# Altium footprint library Fuse_Bourns.PcbLib: 1 footprints
Each footprint in its own frame and in the unit in brackets; x right, y up, seen from the top. Pads: shape width x height; smd on the part's side, far side on the other; paste and mask are expansions set on the pad; w line width, h text height; cw(c..) or ccw(c..) is an arc to the next point about the centre after c.
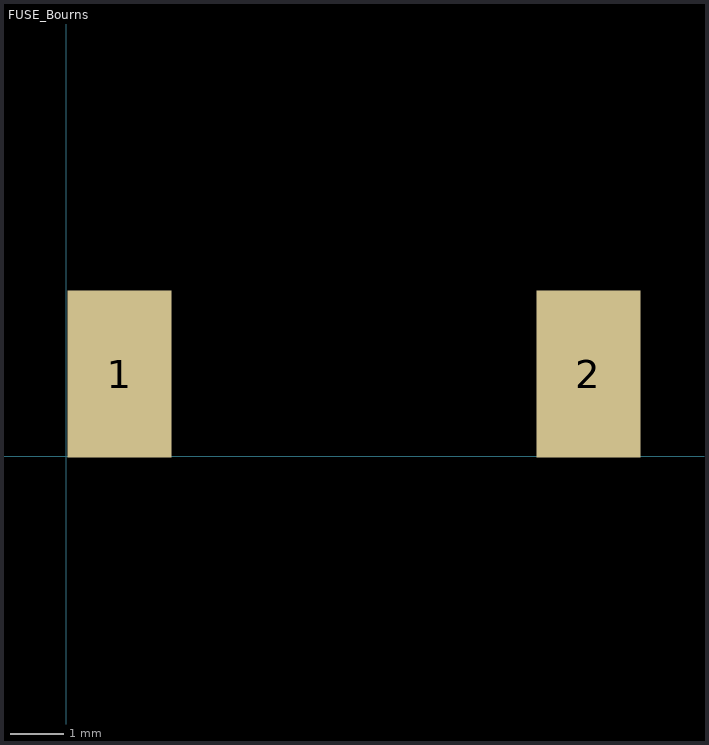
[diagram p0: the footprint, top view; thin cyan lines are the x and y axes]

## FUSE_Bourns [mm]
pads (2):
  rect 1.96x3.15 smd: 1(1,1.55) 2(9.825,1.55)
3D body: height 2.5, standoff 0, extent 0.813,0.425 9.988,2.825